# Altium integrated library Linear_ICs.IntLib: 7 symbols
Pins are listed as number, name and electrical type; pins without a type are passive.

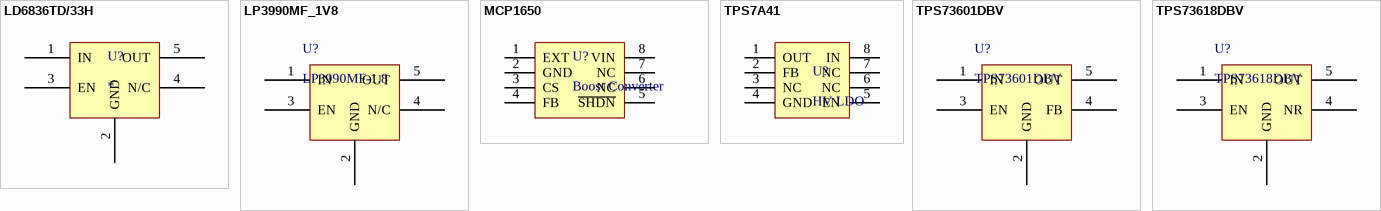
[diagram p0: symbols LD6836TD/33H to TPS73618DBV]

## LD6836TD/33H
designator U?
NXP, LDO 300mA 3.3V LDO regulator
footprint SOT23-5AN (SOT23, 5-Leads, Body 2.9x1.6mm, Pitch 0.95mm, Lead Span 2.8mm, IPC Medium Density)
pins: 1 IN, 2 GND, 3 EN, 4 N/C, 5 OUT

## LP3990MF_1V8
designator U?, comment LP3990MF-1.8
T.I., 150mA 1.8V LDO regulator in SOT23-5 package; Manufacturer: Texas Instruments; PartNumber: LP3990MF-1.8; ComponentLink1Description: Datasheet; ComponentLink1URL: http://sv-code.cm.local/svn/datasheets/TI/power/tps73501/tps73501.pdf
footprint SOT23-5AL (SOT23, 5-Leads, Body 2.9x1.6mm, Pitch 0.95mm, Lead Span 2.8mm, IPC High Density)
footprint SOT23-5AN (SOT23, 5-Leads, Body 2.9x1.6mm, Pitch 0.95mm, Lead Span 2.8mm, IPC Medium Density)
pins: 1 IN, 2 GND, 3 EN, 4 N/C, 5 OUT

## MCP1650
designator U?, comment Boost Converter
Microchip boost converter
footprint MSOP8_N_DGN (TSOP, 8-Leads, Body 3.00x3.00mm, Pitch 0.65mm, IPC Medium Density)
pins: 1 EXT, 2 GND, 3 CS, 4 FB, 5 ~{SHDN}, 6 NC, 7 NC, 8 VIN

## TPS7A41
designator U?, comment HV LDO
TI High Voltage Adjustable LDO, 50mA
footprint MSOP8_N_DGN (TSOP, 8-Leads, Body 3.00x3.00mm, Pitch 0.65mm, IPC Medium Density)
pins: 1 OUT, 2 FB, 3 NC, 4 GND, 5 EN, 6 NC, 7 NC, 8 IN

## TPS73601DBV
designator U?
T.I., 300mA Adj. LDO regulator in SOT23-5 package; Manufacturer: Texas Instruments; PartNumber: TPS73601DBV; ComponentLink1Description: Datasheet; ComponentLink1URL: http://sv-code.cm.local/svn/datasheets/TI/power/tps73601/tps73601.pdf
footprint SOT23-5AL (SOT23, 5-Leads, Body 2.9x1.6mm, Pitch 0.95mm, Lead Span 2.8mm, IPC High Density)
footprint SOT23-5AN (SOT23, 5-Leads, Body 2.9x1.6mm, Pitch 0.95mm, Lead Span 2.8mm, IPC Medium Density)
pins: 1 IN, 2 GND, 3 EN, 4 FB, 5 OUT

## TPS73618DBV
designator U?
T.I., 300mA 1.8V LDO regulator in SOT23-5 package; Manufacturer: Texas Instruments; PartNumber: TPS73618DBV
footprint SOT23-5AL (SOT23, 5-Leads, Body 2.9x1.6mm, Pitch 0.95mm, Lead Span 2.8mm, IPC High Density)
footprint SOT23-5AN (SOT23, 5-Leads, Body 2.9x1.6mm, Pitch 0.95mm, Lead Span 2.8mm, IPC Medium Density)
pins: 1 IN, 2 GND, 3 EN, 4 NR, 5 OUT


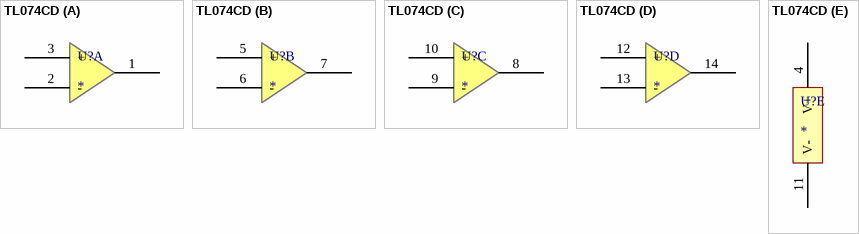
[diagram p1: symbol TL074CD]

## TL074CD
designator U?
STMicro Quad op-amp, 3MHz, 14SOIC
footprint SOIC127P600X175-14N (SOIC, 14-Leads, Body 8.65x3.90mm, Pitch 1.27mm, IPC Medium Density)
part A pins: 1 O, 2 -, 3 +
part B pins: 5 +, 6 -, 7 O
part C pins: 8 O, 9 -, 10 +
part D pins: 12 +, 13 -, 14 O
part E pins: 4 V+, 11 V-